# Altium footprint library Ahrist_Library.PcbLib: 172 footprints (part 11 of 11)
Each footprint in its own frame and in the unit in brackets; x right, y up, seen from the top. Pads: shape width x height; smd on the part's side, far side on the other; paste and mask are expansions set on the pad; w line width, h text height; cw(c..) or ccw(c..) is an arc to the next point about the centre after c.
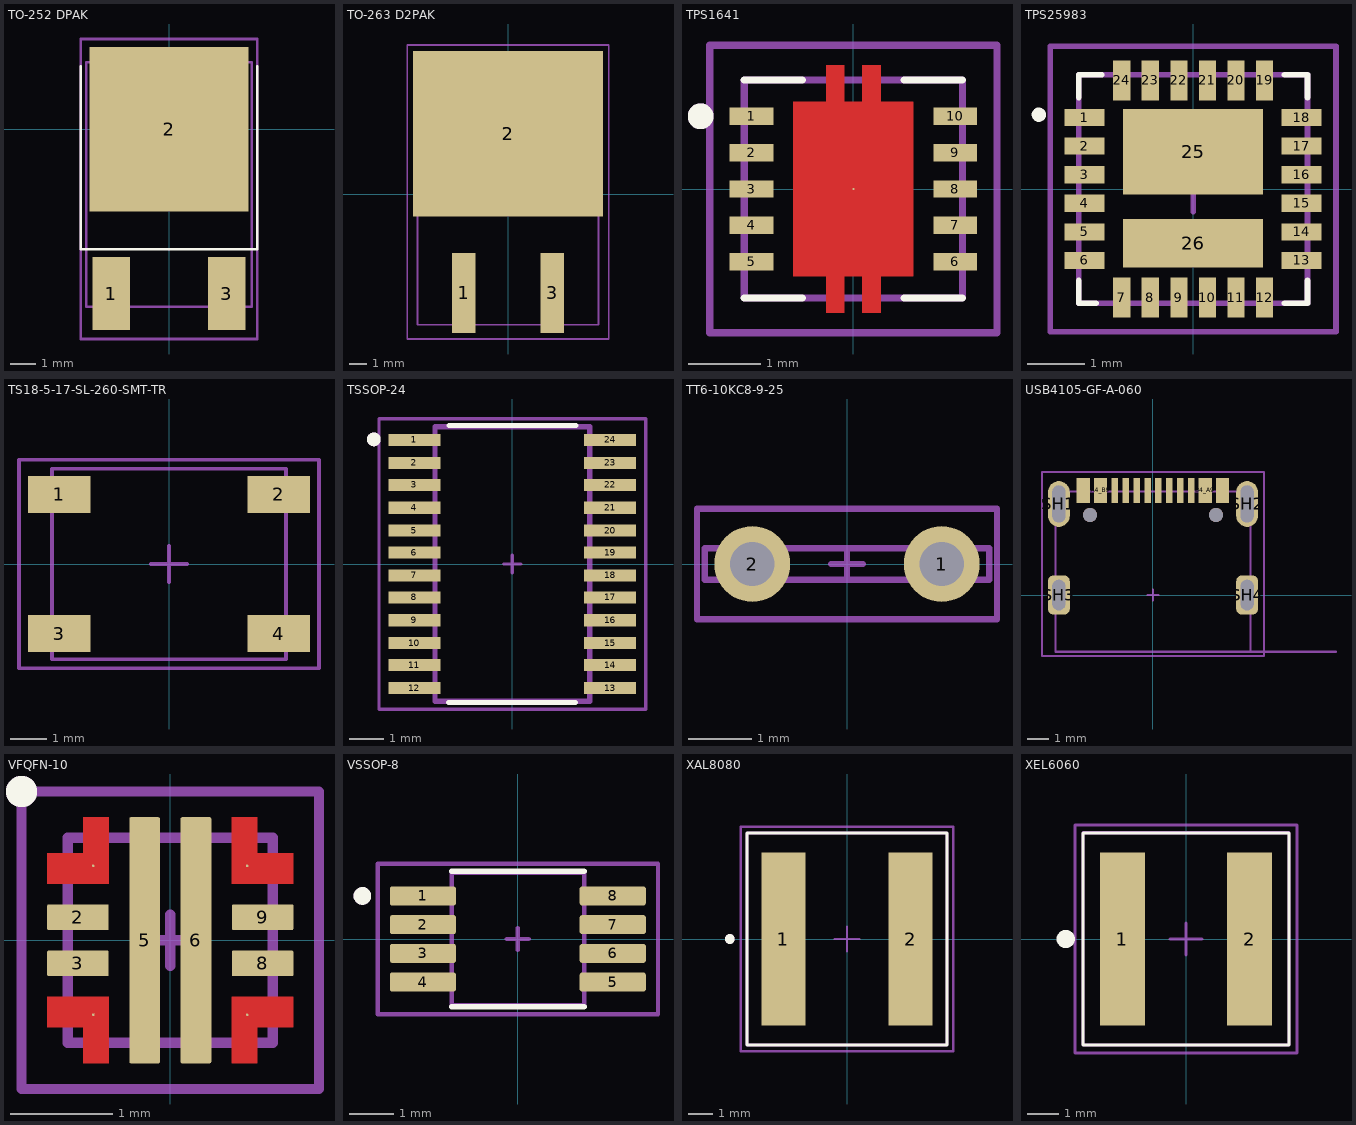
[diagram p10: the footprints below, top view; thin cyan lines are the x and y axes]

## TO-252 DPAK [mm] "DPAK"
pads (3):
  rect 1.5x2.9 smd mask+0.1: 1(-2.286,-6.5) 3(2.286,-6.5)
  rect 6.3x6.5 smd mask+0.1: 2(0,0)
Top Overlay:
  lines w0.1: -3.5,2.5 -3.5,-4.75 3.5,-4.75 3.5,2.5
Top Courtyard:
  lines w0.1: -3.5,-8.3 -3.5,3.5 -3.5,3.575 3.5,3.575 3.5,3.5 3.5,-8.3 -2.325,-8.3 -3.5,-8.3
Top Assembly:
  lines w0.1: -3.275,-7.025 3.275,-7.025 3.275,2.65 -3.275,2.65 -3.275,-7.025
  text ".Designator" at -1.83,-0.288 h0.5
Top Component Center:
  lines w0.1: -0.4,0 0,0 ; 0,-0.4 0,0 ; 0,0.4 0,0 ; 0.4,0 0,0
3D body "STD6N90K5.STEP": height 2.4, standoff -0.23, extent -3.27,-7.104 3.27,2.771

## TO-263 D2PAK [mm]
pads (3):
  rect 1.35x4.6 smd mask+0.1: 1(-2.54,-5.675) 3(2.54,-5.675)
  rect 10.9x9.5 smd mask+0.1: 2(0,3.475)
Top Courtyard:
  lines w0.1: -5.8,-8.325 5.8,-8.325 5.8,3.825 5.8,8.575 -5.8,8.575 -5.8,-6.275 -5.8,-8.325
Top Assembly:
  lines w0.1: -5.2,-7.5 -5.2,7.7 5.2,7.7 5.2,-7.5 -5.2,-7.5
  text ".Designator" at -1.155,0.67 h0.3
Top Component Center:
  lines w0.1: 0,-0.4 0,0 ; 0,0 0,0.4 0,0 ; 0,0 0.4,0 -0.4,0 0,0
3D body "D2PACK.stp": height 4.45, standoff 0, extent -5.2,-7.5 5.2,7.7

## TPS1641 [mm] "2.7-V TO 40-V 152-M 1.8-A EFUSE"
pads (11):
  rect 0.6x0.24 smd mask+0.075: 1(-1.4,1) 2(-1.4,0.5) 3(-1.4,0) 4(-1.4,-0.5) 5(-1.4,-1) 6(1.4,-1) 7(1.4,-0.5) 8(1.4,0) 9(1.4,0.5) 10(1.4,1)
  round 0.025 smd mask+0.075: 11(0,0)
Top Layer:
  region: -0.125,1.2 -0.125,1.7 -0.375,1.7 -0.375,1.2 -0.825,1.2 -0.825,-1.2 -0.375,-1.2 -0.375,-1.7 -0.125,-1.7 -0.125,-1.2 0.125,-1.2 0.125,-1.7 0.375,-1.7 0.375,-1.2 0.825,-1.2 0.825,1.2 0.375,1.2 0.375,1.7 0.125,1.7 0.125,1.2
Top Overlay:
  circle w0.254: c-2.1,1 r0.05
  lines w0.1: -1.5,-1.5 -0.7,-1.5 ; -1.5,1.5 -0.7,1.5 ; 0.7,-1.5 1.5,-1.5 ; 0.7,1.5 1.5,1.5
Top Courtyard:
  lines w0.1: -1.975,0.7 -1.975,1.975 1.975,1.975 1.975,-1.975 -1.975,-1.975 -1.975,1
Top Assembly:
  circle w0.254: c-2.1,1 r0.05
  lines w0.1: -1.5,-1.5 1.5,-1.5 1.5,1.5 -1.5,1.5 -1.5,-1.5
Top Designator:
  text ".Designator" at -0.375,-0.138 h0.6
Top Component Outline:
  lines w0.1: -1.5,-1.5 1.5,-1.5 1.5,1.5 -1.5,1.5 -1.5,-1.5
Top Component Center:
  lines w0.1: 0,-0.25 0,0 ; 0,0 -0.25,0 0.25,0 0,0 ; 0,0 0,0.25 0,0
3D body "DRC0010J.stp": height 1, standoff 0, extent -1.5,-1.5 1.5,1.5

## TPS25983 [mm]
pads (26):
  rect 0.7x0.3 smd mask+0.05: 1(-1.9,1.25) 2(-1.9,0.75) 3(-1.9,0.25) 4(-1.9,-0.25) 5(-1.9,-0.75) 6(-1.9,-1.25) 13(1.9,-1.25) 14(1.9,-0.75) 15(1.9,-0.25) 16(1.9,0.25) 17(1.9,0.75) 18(1.9,1.25)
  rect 0.3x0.7 smd mask+0.05: 7(-1.25,-1.9) 8(-0.75,-1.9) 9(-0.25,-1.9) 10(0.25,-1.9) 11(0.75,-1.9) 12(1.25,-1.9) 19(1.25,1.9) 20(0.75,1.9) 21(0.25,1.9) 22(-0.25,1.9) 23(-0.75,1.9) 24(-1.25,1.9)
  rect 2.45x1.5 smd mask+0.05: 25(0,0.65)
  rect 2.45x0.85 smd mask+0.05: 26(0,-0.95)
Top Overlay:
  circle w0.15: c-2.7,1.3 r0.05
  lines w0.1: -2,-1.6 -2,-2 -1.7,-2 ; -2,1.6 -2,2 -1.6,2 ; 1.6,-2 2,-2 2,-1.6 ; 1.6,2 2,2 2,1.6
Top Courtyard:
  lines w0.1: -2.5,-2.5 -0.675,-2.5 2.5,-2.5 2.5,2.5 -2.5,2.5 -2.5,-2.5
Top Assembly:
  lines w0.1: -2,-2 -2,2 2,2 2,-2 0,-2 -2,-2
Top Component Center:
  lines w0.1: 0,-0.4 0,0 ; 0,0 0,0.4 0,0 ; 0,0 0.4,0 -0.4,0 0,0
3D body "TPS259830ONRGER--3DModel-STEP-56544.STEP": height 1, standoff 0, extent -2,-2 2,2

## TS18-5-17-SL-260-SMT-TR [mm] "SWITCH TACTILE SPST-NO 0.05A 12V"
pads (4):
  rect 1.7x1 smd: 1(-3,1.9) 2(3,1.9) 3(-3,-1.9) 4(3,-1.9)
Top Courtyard:
  lines w0.1: -4.1,-2.85 -2.425,-2.85 4.1,-2.85 4.1,-2.625 4.1,2.65 4.1,2.85 -1.925,2.85 -4.1,2.85 -4.1,2.65 -4.1,2.1 -4.1,-2.625 -4.1,-2.85
Top Assembly:
  lines w0.1: -3.196,-2.6 -3.196,0.548 -3.196,2.6 3.2,2.6 3.2,-2.6 -3.196,-2.6
Top Designator:
  text ".Designator" at -1.3,-0.339 h1.52
Top Component Center:
  lines w0.1: 0,-0.5 0,0 ; 0,0 -0.5,0 0.5,0 0,0 ; 0,0 0,0.5 0,0
3D body "Same_Sky_TS18-5-17-SL-260-SMT-TR.step": height 1.7, standoff 0, extent -3.2,-2.6 3.2,2.6

## TSSOP-24 [mm] "TSSOP-24"
pads (24):
  rect 1.5x0.35 smd mask+0.075: 1(-2.825,3.581) 2(-2.825,2.921) 3(-2.825,2.286) 4(-2.825,1.626) 5(-2.825,0.965) 6(-2.825,0.33) 7(-2.825,-0.33) 8(-2.825,-0.965) 9(-2.825,-1.626) 10(-2.825,-2.286) 11(-2.825,-2.921) 12(-2.825,-3.581) 13(2.825,-3.581) 14(2.825,-2.921) 15(2.825,-2.286) 16(2.825,-1.626) 17(2.825,-0.965) 18(2.825,-0.33) 19(2.825,0.33) 20(2.825,0.965) 21(2.825,1.626) 22(2.825,2.286) 23(2.825,2.921) 24(2.825,3.581)
Top Overlay:
  circle w0.2: c-4,3.6 r0.1
  lines w0.152: -1.833,-4 1.825,-4 ; -1.829,4 -0.305,4 0.305,4 1.829,4
Top Courtyard:
  lines w0.1: -1.45,4.2 3.85,4.2 3.85,-4.2 -3.85,-4.2 -3.85,4.2 -1.425,4.2
Top Assembly:
  circle w0.2: c-4,3.6 r0.1
  lines w0.152: -2.235,-3.734 -2.235,-3.429 ; -2.235,-3.073 -2.235,-2.769 ; -2.235,-2.438 -2.235,-2.134 ; -2.235,-1.778 -2.235,-1.473 ; -2.235,-1.118 -2.235,-0.813 ; -2.235,-0.483 -2.235,-0.178 ; -2.235,0.178 -2.235,0.483 ; -2.235,0.813 -2.235,1.118 ; -2.235,1.473 -2.235,1.778 ; -2.235,2.134 -2.235,2.438 ; -2.235,2.769 -2.235,3.073 ; -2.235,3.429 -2.235,3.734 ; 2.235,-3.734 2.235,-3.429 ; 2.235,-3.073 2.235,-2.769 ; 2.235,-2.438 2.235,-2.134 ; 2.235,-1.778 2.235,-1.473 ; 2.235,-1.118 2.235,-0.813 ; 2.235,-0.483 2.235,-0.178 ; 2.235,0.178 2.235,0.483 ; 2.235,0.813 2.235,1.118 ; 2.235,1.473 2.235,1.778 ; 2.235,2.134 2.235,2.438 ; 2.235,2.769 2.235,3.073 ; 2.235,3.429 2.235,3.734 ; -2.235,-3.962 2.235,-3.962 2.235,3.962 0.305,3.962 -0.305,3.962 -2.235,3.962 -2.235,-3.962
Top Designator:
  text ".Designator" at -1,0.188 h1
Top Component Outline:
  lines w0.152: -2.235,-3.734 -2.235,-3.429 ; -2.235,-3.073 -2.235,-2.769 ; -2.235,-2.438 -2.235,-2.134 ; -2.235,-1.778 -2.235,-1.473 ; -2.235,-1.118 -2.235,-0.813 ; -2.235,-0.483 -2.235,-0.178 ; -2.235,0.178 -2.235,0.483 ; -2.235,0.813 -2.235,1.118 ; -2.235,1.473 -2.235,1.778 ; -2.235,2.134 -2.235,2.438 ; -2.235,2.769 -2.235,3.073 ; -2.235,3.429 -2.235,3.734 ; 2.235,-3.734 2.235,-3.429 ; 2.235,-3.073 2.235,-2.769 ; 2.235,-2.438 2.235,-2.134 ; 2.235,-1.778 2.235,-1.473 ; 2.235,-1.118 2.235,-0.813 ; 2.235,-0.483 2.235,-0.178 ; 2.235,0.178 2.235,0.483 ; 2.235,0.813 2.235,1.118 ; 2.235,1.473 2.235,1.778 ; 2.235,2.134 2.235,2.438 ; 2.235,2.769 2.235,3.073 ; 2.235,3.429 2.235,3.734 ; -2.235,-3.962 2.235,-3.962 2.235,3.962 0.305,3.962 -0.305,3.962 -2.235,3.962 -2.235,-3.962
Top Component Center:
  lines w0.1: 0,-0.25 0,0 ; 0,0 -0.25,0 0,0 ; 0,0 0.25,0 0,0 ; 0,0 0,0.25 0,0
3D body "step_temp.STEP": height 1.2, standoff 0, extent -3.2,-3.9 3.2,3.9

## TT6-10KC8-9-25 [mm] "TT6-10KC8-9-25"
pads (2):
  round 1.2 hole 0.7 mask+0.075: 1(1.5,0) 2(-1.5,0)
Top Courtyard:
  lines w0.1: -2.375,-0.025 -2.375,0.875 1.5,0.875 ; -2.375,0.025 -2.375,-0.875 1.5,-0.875 ; -1.5,-0.875 2.375,-0.875 2.375,0.025 ; -1.5,0.875 2.375,0.875 2.375,-0.025
Top Assembly:
  lines w0.1: -2.25,-0.25 -2.25,0 -2.25,0.25 0,0.25 2.25,0.25 2.25,0 2.25,-0.25 0,-0.25 -2.25,-0.25
Top Designator:
  text ".Designator" at -0.446,-0.096 h1
Top Component Center:
  lines w0.1: 0,-0.25 0,0 ; 0,0 -0.25,0 0.25,0 0,0 ; 0,0 0,0.25 0,0

## USB4105-GF-A-060 [mm] "USB-C (USB TYPE-C) USB 2.0"
pads (18):
  rect 0.6x1.15 smd mask+0.075: A1_B12(-3.2,4.8) A4_B9(-2.4,4.8) B1_A12(3.2,4.8) B4_A9(2.4,4.8)
  rect 0.3x1.15 smd mask+0.075: A5(-1.25,4.8) A6(-0.25,4.8) A7(0.25,4.8) A8(1.25,4.8) B5(1.75,4.8) B6(0.75,4.8) B7(-0.75,4.8) B8(-1.75,4.8)
  oval 1x2.1 hole 0.6 slot 1.7 at 90 deg mask+0.075: SH1(-4.32,4.18) SH2(4.32,4.18)
  rrect50% 1x1.8 hole 0.6 slot 1.4 at 90 deg mask+0.075: SH3(-4.32,0) SH4(4.32,0)
  round 0.65 hole 0.65 unplated mask+0.075: ""(-2.89,3.68) ""(2.89,3.68)
Top Courtyard:
  lines w0.1: -5.1,-2.8 5.1,-2.8 5.1,5.65 -5.1,5.65 -5.1,-2.8
Top Assembly:
  lines w0.1: 8.4,-2.6 4.47,-2.6 ; 4.47,-2.6 -4.47,-2.6 -4.47,4.75 4.47,4.75 4.47,-2.6
  text "PCB EDGE" at 5.4,-2.5 h0.41
Top Designator:
  text ".Designator" at -0.75,0.625 h2
Top Component Center:
  lines w0.1: 0,-0.25 0,0 ; 0,0 -0.25,0 0.25,0 0,0 ; 0,0 0,0.25 0,0
3D body "step_temp.STEP": height 3.31, standoff -0.85, extent -4.47,-2.6 4.47,5.11

## VFQFN-10 [mm] "TI VFQFN-10"
pads (10):
  round 0.025 smd paste+0 mask+0.05: 1(-0.75,0.725) 4(-0.75,-0.725) 7(0.75,-0.725) 10(0.75,0.725)
  rrect10% 0.6x0.25 smd paste+0 mask+0.05: 2(-0.9,0.225) 3(-0.9,-0.225) 8(0.9,-0.225) 9(0.9,0.225)
  rrect10% 0.3x2.4 smd paste+0 mask+0.05: 5(-0.25,0) 6(0.25,0)
Top Layer:
  region: 0.85,-1.2 0.85,-0.85 1.2,-0.85 1.2,-0.55 0.6,-0.55 0.6,-1.2
  region: -0.85,-1.2 -0.85,-0.85 -1.2,-0.85 -1.2,-0.55 -0.6,-0.55 -0.6,-1.2
  region: 0.85,1.2 0.85,0.85 1.2,0.85 1.2,0.55 0.6,0.55 0.6,1.2
  region: -0.85,1.2 -0.85,0.85 -1.2,0.85 -1.2,0.55 -0.6,0.55 -0.6,1.2
Top Overlay:
  circle w0.254: c-1.45,1.45 r0.025
Top Courtyard:
  lines w0.1: -1.45,-1.45 -1.45,0.65 -1.45,1.45 1.45,1.45 1.45,-1.45 -1.45,-1.45
Top Assembly:
  circle w0.254: c-1.45,1.45 r0.025
  lines w0.1: -1,-1 -1,1 1,1 1,-1 -0.475,-1 -1,-1
Top Designator:
  text ".Designator" at -0.5,-0.062 h1
Top Component Center:
  lines w0.1: 0,-0.25 0,0 ; 0,0 -0.25,0 0.25,0 0,0 ; 0,0 0,0.25 0,0
3D body "TPS259474LRPWR.STEP": height 1, standoff 0, extent -1,-1 1,1

## VSSOP-8 [mm] "VSSOP-8 Texas Instruments"
pads (8):
  rrect25% 1.5x0.43 smd mask+0.05: 1(-2.15,0.975) 2(-2.15,0.325) 3(-2.15,-0.325) 4(-2.15,-0.975) 5(2.15,-0.975) 6(2.15,-0.325) 7(2.15,0.325) 8(2.15,0.975)
Top Overlay:
  circle w0.2: c-3.52,0.975 r0.1
  lines w0.127: -1.5,-1.535 1.5,-1.535 ; -1.5,1.535 1.5,1.535
Top Assembly:
  circle w0.2: c-3.52,0.975 r0.1
  lines w0.1: -1.5,-1.5 -1.5,1.5 1.5,1.5 1.5,-1.5 -1.5,-1.5
Top Designator:
  text ".Designator" at -0.725,-0.339 h1.52
Top Component Outline:
  lines w0.1: -1.5,-1.5 -1.5,1.5 1.5,1.5 1.5,-1.5 -1.5,-1.5
Mechanical 15:
  lines w0.1: -3.175,-1.7 3.175,-1.7 3.175,1.7 -3.175,1.7 -3.175,-1.7
Top Component Center:
  lines w0.1: 0,-0.25 0,0 ; 0,0 0,0.25 0,0 ; 0,0 0.25,0 -0.25,0 0,0
3D body "step_temp.STEP": height 1.1, standoff 0, extent -2.45,-1.5 2.45,1.5

## XAL8080 [mm] "4.7 µH Shielded Molded Inductor 14.6 A 9.77mOhm Max Nonstandard"
pads (2):
  rect 1.78x7 smd: 1(-2.58,0) 2(2.58,0)
Top Overlay:
  circle w0.2: c-4.75,0 r0.1
  lines w0.127: -4.05,-4.3 4.05,-4.3 4.05,4.3 -4.05,4.3 -4.05,-4.3
Top Courtyard:
  lines w0.1: -4.3,-4.55 -4.3,0.825 -4.3,4.55 4.3,4.55 4.3,-4.55 -4.3,-4.55
Top Assembly:
  circle w0.2: c-4.75,0 r0.1
  lines w0.127: -4.05,-4.3 4.05,-4.3 4.05,4.3 -4.05,4.3 -4.05,-4.3
Top Component Center:
  lines w0.1: 0.5,0 0,0 ; 0,0 0,0.5 0,0 ; 0,0 -0.5,0 0,0 ; 0,0 0,-0.5 0,0
3D body "XAL8080-472MED--3DModel-STEP-56544.STEP": height 8, standoff 0, extent -4.05,-4.3 4.05,4.3

## XEL6060 [mm] "Shielded Power Inductors – XEL6060"
pads (2):
  rect 1.43x5.5 smd: 1(-2.02,0) 2(2.02,0)
Top Overlay:
  circle w0.3: c-3.825,0 r0.14
  lines w0.1: -3.275,-3.375 3.275,-3.375 3.275,3.375 -3.275,3.375 -3.275,-3.375
Top Courtyard:
  lines w0.1: -3.525,-3.625 -3.525,3.625 3.525,3.625 3.525,-3.625 -1.925,-3.625 -3.525,-3.625
Top Assembly:
  lines w0.1: -3.275,-3.375 -3.275,3.38 3.28,3.38 3.28,-3.375 -3.275,-3.375
Top Component Center:
  lines w0.1: 0,-0.5 0,0 ; 0,0 0,0.5 0,0 ; 0,0 -0.5,0 0,0 ; 0,0 0.5,0 0,0
3D body "Coilcraft-XEL6060.STEP": height 6, standoff -0.1, extent -3.28,-3.38 3.28,3.38